# EAGLE library part MC34063A (library myparts)
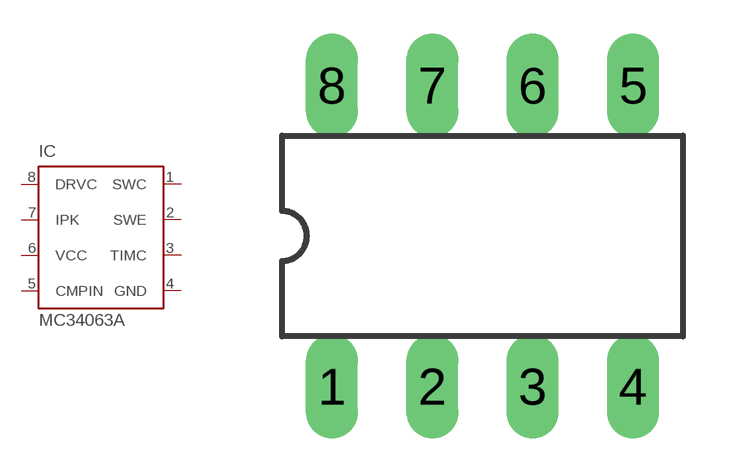
[diagram p1: symbol with the pads of DIL8; footprint DIL8]

Designator prefix IC

## MC34063A  [DIL8]
1  SWC  oc
2  SWE  out
3  TIMC  out
4  GND  pwr
5  CMPIN  in
6  VCC  pwr
7  IPK  in
8  DRVC  in

## Footprint DIL8 (pad centres in mm)
Dual In Line package type P
drill 0.813 long: 1 -3.81,-3.81; 2 -1.27,-3.81; 3 1.27,-3.81; 4 3.81,-3.81; 5 3.81,3.81; 6 1.27,3.81; 7 -1.27,3.81; 8 -3.81,3.81